# Altium schematic symbol library sample.SchLib: 1 symbol
Pins are listed as number, name and electrical type; pins without a type are passive.

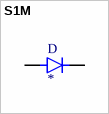
[diagram p0: symbol S1M]

## S1M
designator D
Diode Standard 1000V 1A Surface Mount SMA _DO-214AC_; MF: ON Semiconductor; MP: S1M; Package: DO-214AC-214 ON Semiconductor; Value: *; Price: None; Availability: Unavailable; SnapEDA_Link: https://www.snapeda.com/parts/S1M/ON%20Semiconductor/view-part/1653505/?ref=snap
footprint DIOM5227X270N
pins: A, C K